# Altium footprint library IPM_Pcb.PcbLib: 1 footprints
Each footprint in its own frame and in the unit in brackets; x right, y up, seen from the top. Pads: shape width x height; smd on the part's side, far side on the other; paste and mask are expansions set on the pad; w line width, h text height; cw(c..) or ccw(c..) is an arc to the next point about the centre after c.
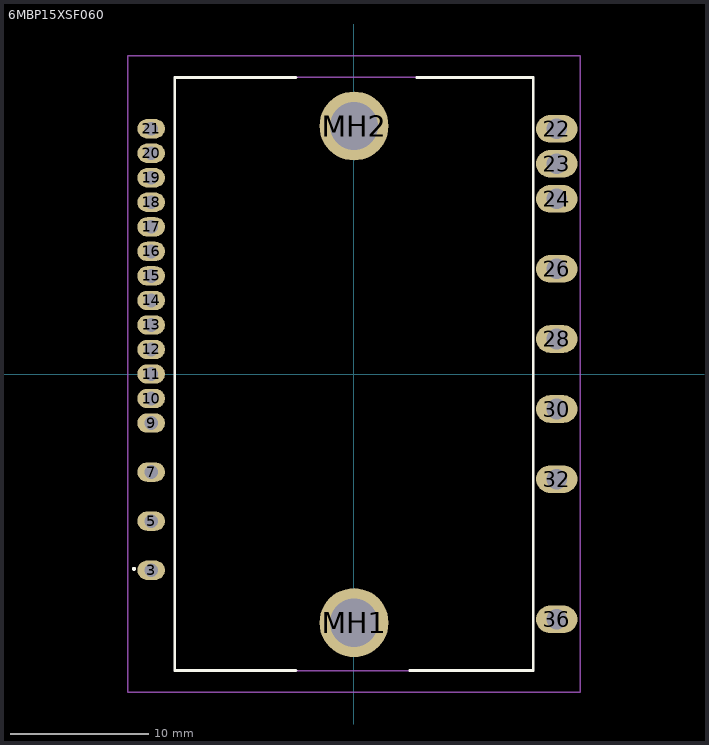
[diagram p0: the footprint, top view; thin cyan lines are the x and y axes]

## 6MBP15XSF060 [mm]
pads (26):
  oval 2x1.4 hole 1: 3(-14.7,-14.2) 5(-14.7,-10.644) 7(-14.7,-7.088) 9(-14.7,-3.532) 10(-14.7,-1.754) 11(-14.7,0.024) 12(-14.7,1.802) 13(-14.7,3.58) 14(-14.7,5.358) 15(-14.7,7.136) 16(-14.7,8.914) 17(-14.7,10.692) 18(-14.7,12.47) 19(-14.7,14.248) 20(-14.7,16.026) 21(-14.7,17.804)
  oval 3x2 hole 1.5: 22(14.7,17.8) 23(14.7,15.264) 24(14.7,12.724) 26(14.7,7.644) 28(14.7,2.564) 30(14.7,-2.516) 32(14.7,-7.596) 36(14.7,-17.756)
  round 5 hole 3.5: MH1(0,-18) MH2(0,18)
Top Overlay:
  lines w0.2: -4.2,-21.476 -13,-21.476 -13,21.524 -4.2,21.524 ; 4.05,-21.476 13,-21.476 13,21.524 4.55,21.524 ; -16,-14.1 ccw(c-15.95,-14.1) -15.9,-14.1 ; -16,-14.1 cw(c-15.95,-14.1) -15.9,-14.1 ; -16,-14.1 cw(c-15.95,-14.1) -15.9,-14.1
Mechanical 13:
  lines w0.1: -13,-21.476 -13,21.524 13,21.524 13,-21.476 -13,-21.476
Mechanical 15:
  lines w0.1: -16.416,-23.041 16.416,-23.041 16.416,23.089 -16.416,23.089 -16.416,-23.041
3D body "6MBP15XSF060-50.stp": height 9.14, standoff -2.09, extent -15.057,-21.476 15.057,21.524